# EAGLE library part FT240X (library ic-FTDI)
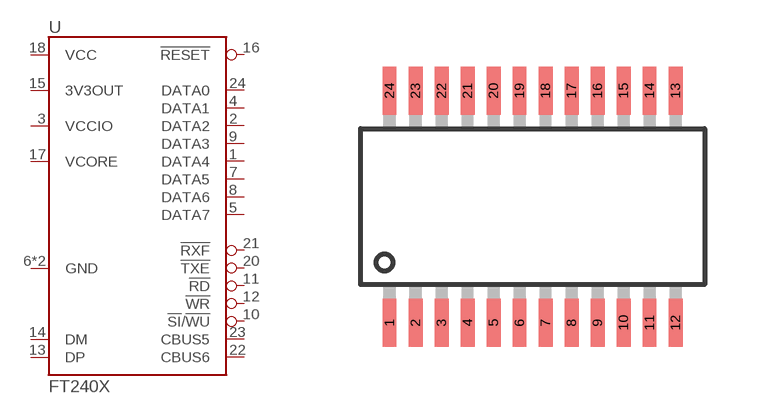
[diagram p4: symbol with the pads of SSOP24; footprint SSOP24]

Designator prefix U

## FT240XS  [SSOP24]
1  DATA4
2  DATA2
3  VCCIO
4  DATA1
5  DATA7
6  GND
7  DATA5
8  DATA6
9  DATA3
10  !SI!/!WU!
11  !RD
12  !WR
13  DP
14  DM
15  3V3OUT
16  !RESET
17  VCORE
18  VCC
19  GND
20  !TXE
21  !RXF
22  CBUS6
23  CBUS5
24  DATA0

## Footprint SSOP24 (pad centres in mm)
smd 0.35 x 1.2: 1 -3.575,-2.9; 2 -2.925,-2.9; 3 -2.275,-2.9; 4 -1.625,-2.9; 5 -0.975,-2.9; 6 -0.325,-2.9; 7 0.325,-2.9; 8 0.975,-2.9; 9 1.625,-2.9; 10 2.275,-2.9; 11 2.925,-2.9; 12 3.575,-2.9; 13 3.575,2.9; 14 2.925,2.9; 15 2.275,2.9; 16 1.625,2.9; 17 0.975,2.9; 18 0.325,2.9; 19 -0.325,2.9; 20 -0.975,2.9; 21 -1.625,2.9; 22 -2.275,2.9; 23 -2.925,2.9; 24 -3.575,2.9